# EAGLE library part 615016137621 (library WR-MJ)
WR-MJ Cat 3 Modular Jacks – THT Characteristics Shieldingless and Shielded with EMI-Spring option Optional LEDs in various sequences Vertical and Horizontal orientation Stacked and assembled configurations Tray Packaging Properties PoE++ Compatible up to 100W (IEEE 802.3bt) UL and cULus-Certified UL94-V0 insulator material Ethernet Category 3 – Category 5 under conditions Applications Networks Internet of Things mart Buildings <https://www.we-online.com/components/media/o863419v209%20multi-WR-MJTH-615002138421.jpg> Details see: www.we-online.com/en/components/products/WR_MJ_MODULAR_JACKS_THT <www.we-online.com/catalog/WR_MJ_MODULAR_JACKS_THT/?utm_source=eagle_model&utm_medium=description_link&utm_campaign=eisos_eagle> Updated by Yingchun Shan 2020-01-06 2020(C) Würth Elektronik
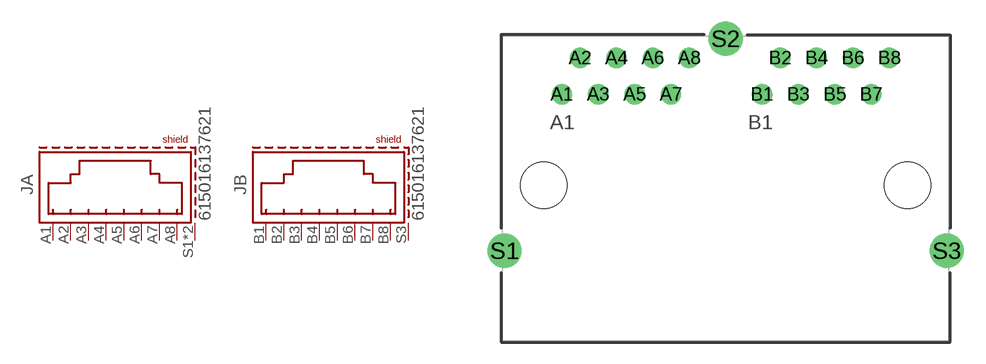
[diagram p24: symbol with the pads of 615016137621; footprint 615016137621]

Designator prefix J; gates A=8P8C_S B=8P8C_S

## 615016137621 (APPLICATION-SYSTEM: CAT 3; DATASHEET-URL: https://www.we-online.com/redexpert/spec/615016137621?ae; EMI: No; LED: /; MOUNT: THT; PART-NUMBER: 615016137621; SIZE: Horizontal; TAB: Down; VALUE: 615016137621; XPXC: 8P8C)  [615016137621]
A1  A:8  pas
A2  A:7  pas
A3  A:6  pas
A4  A:5  pas
A5  A:4  pas
A6  A:3  pas
A7  A:2  pas
A8  A:1  pas
B1  B:8  pas
B2  B:7  pas
B3  B:6  pas
B4  B:5  pas
B5  B:4  pas
B6  B:3  pas
B7  B:2  pas
B8  B:1  pas
S1  A:SHIELD  pas
S2  A:SHIELD  pas
S3  B:SHIELD  pas

## Footprint 615016137621 (pad centres in mm)
WR-MJ Horizontal Shielded Dual Port 8P8C Modular Jack Tab Down, 16 Pins
drill 0.9: A1 -11.43,6.565; A2 -10.16,9.105; A3 -8.89,6.565; A4 -7.62,9.105; A5 -6.35,6.565; A6 -5.08,9.105; A7 -3.81,6.565; A8 -2.54,9.105; B1 2.54,6.565; B2 3.81,9.105; B3 5.08,6.565; B4 6.35,9.105; B5 7.62,6.565; B6 8.89,9.105; B7 10.16,6.565; B8 11.43,9.105
drill 1.6: S1 -15.435,-4.355; S2 0,10.455; S3 15.435,-4.355
hole 3.25 at -12.7,0.215
hole 3.25 at 12.7,0.215